# Altium schematic symbol library SCH - CONNECTORS - TE - Pin-Header-3.SCHLIB: 1 symbol
Pins are listed as number, name and electrical type; pins without a type are passive.

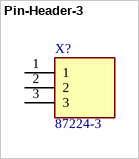
[diagram p0: symbol Pin-Header-3]

## Pin-Header-3
designator X?, comment 87224-3
Connector; Manufacturer: TE Connectivity; Height: 10.3632mm; Category: pin_header; Created: 2020-11-04_MGremer; Manufacturer Part Number: 87224-3; Mounting Style: THT; Pins: 3; Supplier 1: Mouser; Supplier Part Number 1: 571-872243
footprint 872243
pins: 1, 2, 3